# Altium integrated library Infineon_Power_Supply_Voltage_Regulator.IntLib: 346 symbols (part 14 of 16)
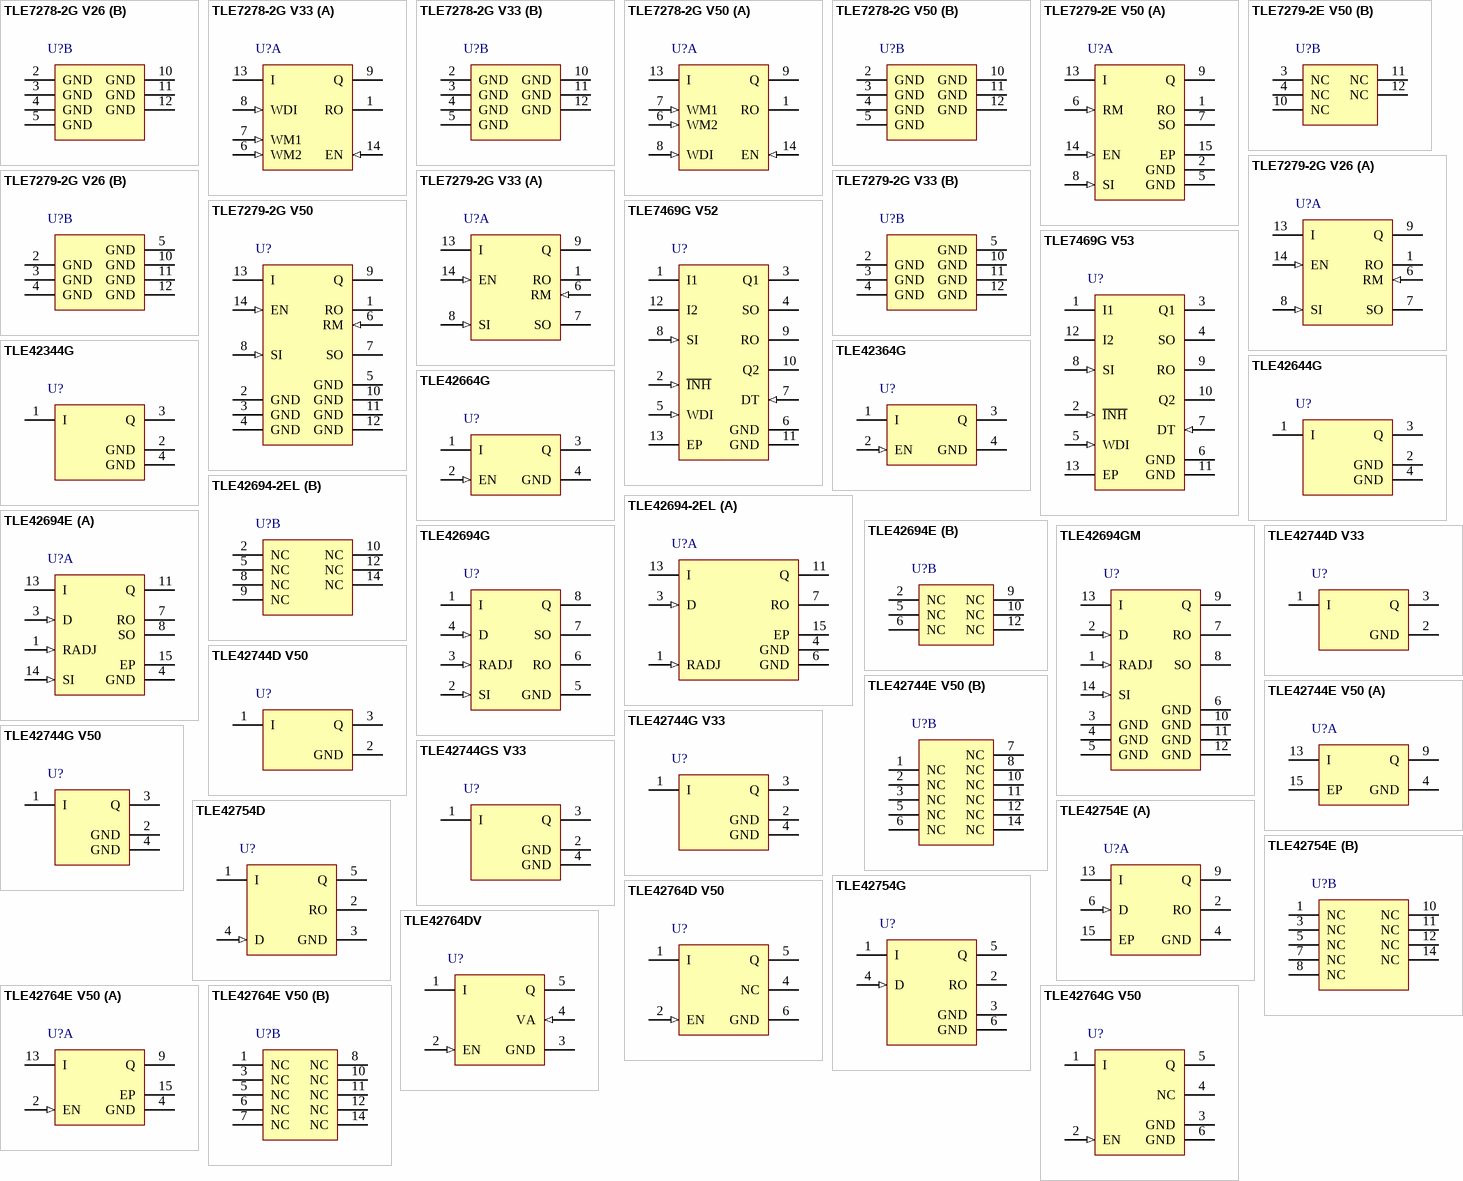
[diagram p22: symbols TLE7278-2G V26 to TLE42764G V50]

## TLE42694-2EL
designator U?
Low Drop Fixed Voltage Regulator, 5.5 to 45 V Supply, 5 V Output, -40 to 150 degC, PG-SSOP-14, Reel, Green; Manufacturer: Infineon; PartNumber: TLE42694-2EL; Accuracy: 2 %; Dropout Voltage: 200 mV; Green: TRUE; Max. Output Current: 150 mA; Output Voltage: 5V; Regulator Type: single output; Typical Quiescent Current: 210 uA; DatasheetVersion: Rev. 1.0; PackageVersion: Oct-08; PackageReference: PG-SSOP-14; PackageDescription: 14-Pin Plastic (Green) Shrink Small Outline Package, 4.9 x 3.9 mm Body, 0.65 mm Pitch; Supplier 1: Mouser; Supplier Part Number 1: N/A; Halogen-free: TRUE; Operating Range: 5.5 to 45 V; Packing: Reel; Mounting Technology: Surface Mount; ComponentLink1Description: Manufacturer URL; ComponentLink1URL: http://www.infineon.com/; ComponentLink2Description: Datasheet; ComponentLink2URL: http://www.infineon.com/dgdl/TLE42694-2-DS-10-Infineon.pdf?folderId=db3a30431ff988150120802bce1d257a&fileId=db3a30433acf32c9013ad5e978df5e29&location=en.Products.Automotive_ICs.Linear_Voltage_Regulators_for_Automotive-Applications.Linear_Voltage_Regulators_-_Selection_Table.DATASHEET.TLE42694-2-DS-10-Infineon.pdf; ComponentLink3Description: Package Specification; ComponentLink3URL: http://www.infineon.com/dgdl/ILD1151-Data-Sheet-11-Infineon.pdf?folderId=db3a30431f848401011fcbf2ab4c04c4&fileId=db3a304330046413013031216f2b20e1&location=en.Products.LED_Drivers___Lighting_ICs.LED_Driver_for_Outdoor_Lighting___Indoor_Lighting.LED_Driver__Product_portfolio_and_Information.DATASHEET.ILD1151-Data-Sheet-11-Infineon.pdf
footprint INF-PG-SSOP-14_N (SOP, 14-Leads, Body 4.9x3.9mm, Pitch 0.65mm, Thermal Pad 3.2x2.75mm, IPC Medium Density)
footprint INF-PG-SSOP-14_L (SOP, 14-Leads, Body 4.9x3.9mm, Pitch 0.65mm, Thermal Pad 3.2x2.85mm, IPC High Density)
footprint INF-PG-SSOP-14_M (SOP, 14-Leads, Body 4.9x3.9mm, Pitch 0.65mm, Thermal Pad 3.2x2.55mm, IPC Low Density)
part A pins: 1 RADJ (in) "Reset Threshold Adjust, connect an external voltage divider to adjust reset threshold; connect to GND for using internal threshold", 3 D (in) "Reset Delay Timing, connect a ceramic capacitor to GND for adjusting the reset delay time; leave open if the reset function is not needed", 4 GND (power) "Ground, all pins must be connected to GND", 6 GND (power) "Ground, all pins must be connected to GND", 7 RO (oc) "Reset Output, open collector output; internally linked to the output via a 20k ohm pull-up resistor; leave open if the reset function is not needed", 11 Q (power) "Output, block to GND with a capacitor close to the IC terminals, respecting the values given  for its capacitance CQ and ESR in the table “Functional Range" on Page 6", 13 I (power) "Input, for compensating line influences, a capacitor to GND close to the IC terminals is  recommended", 15 EP (power) "Exposed Pad, connect to heatsink area; connect to GND"
part B pins: 2 NC "Not connected. No Internal Connection. Can be connected to I or GND (to improve heat dissipation).", 5 NC "Not connected. No Internal Connection. Can be connected to I or GND (to improve heat dissipation).", 8 NC "Not connected. No Internal Connection. Can be connected to I or GND (to improve heat dissipation).", 9 NC "Not connected. No Internal Connection. Can be connected to I or GND (to improve heat dissipation).", 10 NC "Not connected. No Internal Connection. Can be connected to I or GND (to improve heat dissipation).", 12 NC "Not connected. No Internal Connection. Can be connected to I or GND (to improve heat dissipation).", 14 NC "Not connected. No Internal Connection. Can be connected to I or GND (to improve heat dissipation)."

## TLE42694E
designator U?
Low Drop Fixed Voltage Regulator, 5.5 to 45 V Supply, 5 V Output, -40 to 150 degC, PG-SSOP-14, Reel, Green; Manufacturer: Infineon; PartNumber: TLE42694E; Accuracy: 2 %; Dropout Voltage: 250 mV; Green: TRUE; Max. Output Current: 100 mA; Output Voltage: 5V; Regulator Type: single output; Typical Quiescent Current: 210 uA; DatasheetVersion: Rev. 1.2; PackageVersion: Oct-08; PackageReference: PG-SSOP-14; PackageDescription: 14-Pin Plastic (Green) Shrink Small Outline Package, 4.9 x 3.9 mm Body, 0.65 mm Pitch; Supplier 1: Mouser; Supplier Part Number 1: 726-TLE42694E; Supplier 2: Digi-Key; Supplier Part Number 2: TLE42694EINTR-ND; Supplier 3: Digi-Key; Supplier Part Number 3: TLE42694EINCT-ND; Supplier 4: Digi-Key; Supplier Part Number 4: TLE42694EINDKR-ND; Halogen-free: TRUE; Operating Range: 5.5 to 45 V; Packing: Reel; Mounting Technology: Surface Mount; ComponentLink1Description: Manufacturer URL; ComponentLink1URL: http://www.infineon.com/; ComponentLink2Description: Datasheet; ComponentLink2URL: http://www.infineon.com/dgdl/TLE42694_DS_120.pdf?folderId=db3a304314dca3890115039cf70d0bf0&fileId=db3a304320d39d59012176fa917778e1&location=en.Products.Automotive_ICs.Linear_Voltage_Regulators_for_Automotive-Applications.Linear_Voltage_Regulators_-_Selection_Table.DATASHEET.TLE42694_DS_120.pdf; ComponentLink3Description: Package Specification; ComponentLink3URL: http://www.infineon.com/dgdl/ILD1151-Data-Sheet-11-Infineon.pdf?folderId=db3a30431f848401011fcbf2ab4c04c4&fileId=db3a304330046413013031216f2b20e1&location=en.Products.LED_Drivers___Lighting_ICs.LED_Driver_for_Outdoor_Lighting___Indoor_Lighting.LED_Driver__Product_portfolio_and_Information.DATASHEET.ILD1151-Data-Sheet-11-Infineon.pdf
footprint INF-PG-SSOP-14_N (SOP, 14-Leads, Body 4.9x3.9mm, Pitch 0.65mm, Thermal Pad 3.2x2.75mm, IPC Medium Density)
footprint INF-PG-SSOP-14_L (SOP, 14-Leads, Body 4.9x3.9mm, Pitch 0.65mm, Thermal Pad 3.2x2.85mm, IPC High Density)
footprint INF-PG-SSOP-14_M (SOP, 14-Leads, Body 4.9x3.9mm, Pitch 0.65mm, Thermal Pad 3.2x2.55mm, IPC Low Density)
part A pins: 1 RADJ (in) "Reset Threshold Adjust connect an external voltage divider to adjust reset threshold; connect to GND for using internal threshold", 3 D (in) "Reset Delay Timing connect a ceramic capacitor to GND for adjusting the reset delay time; leave open if the reset function is not needed", 4 GND (power) "Ground all pins must be connected to GND", 7 RO (oc) "Reset Output open collector output; internally linked to the output via a 20k ohm pull-up resistor; leave open if the reset function is not needed", 8 SO (oc) "Sense Output open collector output; internally linked to the output via a 20k ohm pull-up resistor; leave open if the sense comparator is not needed", 11 Q (power) "Output block to GND with a capacitor close to the IC terminals, respecting the values given  for its capacitance C Q and ESR in the table "Functional Range" on Page 7", 13 I (power) "Input for compensating line influences, a capacitor to GND close to the IC terminals is  recommended", 14 SI (in) "Sense Input connect the voltage to be monitored; connect to Q if the sense comparator is not needed", 15 EP (power) "Exposed Pad connect to heatsink area; connect to GND"
part B pins: 2 NC "not connected", 5 NC "not connected", 6 NC "not connected", 9 NC "not connected", 10 NC "not connected", 12 NC "not connected"

## TLE42694G
designator U?
Low Drop Fixed Voltage Regulator, 5.5 to 45 V Supply, 5 V Output, -40 to 150 degC, PG-DSO-8-16, Reel, Green; Manufacturer: Infineon; PartNumber: TLE42694G; Accuracy: 2 %; Dropout Voltage: 250 mV; Green: TRUE; Max. Output Current: 100 mA; Output Voltage: 5V; Regulator Type: single output; Typical Quiescent Current: 210 uA; DatasheetVersion: Rev. 1.2; PackageVersion: Mar-07; PackageReference: PG-DSO-8-16; PackageDescription: 8-Pin Plastic (Green) Dual Small Outline Package, 4.9 x 3.9 mm Body, 1.27 mm Pitch; Supplier 1: Mouser; Supplier Part Number 1: 726-TLE42694G; Supplier 2: Digi-Key; Supplier Part Number 2: TLE42694GTR-ND; Supplier 3: Digi-Key; Supplier Part Number 3: TLE42694GCT-ND; Supplier 4: Digi-Key; Supplier Part Number 4: TLE42694GDKR-ND; Halogen-free: TRUE; Operating Range: 5.5 to 45 V; Packing: Reel; Mounting Technology: Surface Mount; ComponentLink1Description: Manufacturer URL; ComponentLink1URL: http://www.infineon.com/; ComponentLink2Description: Datasheet; ComponentLink2URL: http://www.infineon.com/dgdl/TLE42694_DS_120.pdf?folderId=db3a304314dca3890115039cf70d0bf0&fileId=db3a304320d39d59012176fa917778e1&location=en.Products.Automotive_ICs.Linear_Voltage_Regulators_for_Automotive-Applications.Linear_Voltage_Regulators_-_Selection_Table.DATASHEET.TLE42694_DS_120.pdf; ComponentLink3Description: Package Specification; ComponentLink3URL: http://www.infineon.com/dgdl/TLE7259-2GE_DS_rev12.pdf?folderId=db3a3043163797a6011666d32a0c0de1&fileId=db3a3043163797a6011666d4dbb80de2&location=en.Products.Automotive_ICs.Automotive_Transceivers.LIN_Transceivers.DATASHEET.TLE7259-2GE_DS_rev12.pdf
footprint INF-PG-DSO-8-16_N (SOP, 8-Leads, Body 4.9x3.9mm, Pitch 1.27mm, IPC Medium Density)
footprint INF-PG-DSO-8-16_L (SOP, 8-Leads, Body 4.9x3.9mm, Pitch 1.27mm, IPC High Density)
footprint INF-PG-DSO-8-16_M (SOP, 8-Leads, Body 4.9x3.9mm, Pitch 1.27mm, IPC Low Density)
pins: 1 I (power) "Input for compensating line influences, a capacitor to GND close to the IC terminals is  recommended", 2 SI (in) "Sense Input connect the voltage to be monitored; connect to Q if the sense comparator is not needed", 3 RADJ (in) "Reset Threshold Adjust connect an external voltage divider to adjust reset threshold; connect to GND for using internal threshold", 4 D (in) "Reset Delay Timing connect a ceramic capacitor to GND for adjusting the reset delay time; leave open if the reset function is not needed", 5 GND (power) "Ground", 6 RO (oc) "Reset Output open collector output; external pull-up resistor required, respecting values given in  Item 5.6.5; leave open if the reset function is not needed", 7 SO (oc) "Sense Output open collector output; external pull-up resistor required, respecting values given in  Item 5.8.6; leave open if the sense comparator is not needed", 8 Q (power) "Output block to GND with a capacitor close to the IC terminals, respecting the values given  for its capacitance C Q and ESR in "Functional Range" on Page 9"

## TLE42694GM
designator U?
Low Drop Fixed Voltage Regulator, 5.5 to 45 V Supply, 5 V Output, -40 to 150 degC, PG-DSO-14-37, Reel, Green; Manufacturer: Infineon; PartNumber: TLE42694GM; Accuracy: 2 %; Dropout Voltage: 250 mV; Green: TRUE; Max. Output Current: 100 mA; Output Voltage: 5V; Regulator Type: single output; Typical Quiescent Current: 210 uA; DatasheetVersion: Rev. 1.2; PackageVersion: Sep-07; PackageReference: PG-DSO-14-37; PackageDescription: 14-Pin Plastic (Green) Dual Small Outline Package, 8.65 x 3.9 mm Body, 1.27 mm Pitch; Supplier 1: Mouser; Supplier Part Number 1: 726-TLE42694GM; Supplier 2: Digi-Key; Supplier Part Number 2: TLE42694GMTR-ND; Supplier 3: Digi-Key; Supplier Part Number 3: TLE42694GMCT-ND; Supplier 4: Digi-Key; Supplier Part Number 4: TLE42694GMDKR-ND; Halogen-free: TRUE; Operating Range: 5.5 to 45 V; Packing: Reel; Mounting Technology: Surface Mount; ComponentLink1Description: Manufacturer URL; ComponentLink1URL: http://www.infineon.com/; ComponentLink2Description: Datasheet; ComponentLink2URL: http://www.infineon.com/dgdl/TLE42694_DS_120.pdf?folderId=db3a304314dca3890115039cf70d0bf0&fileId=db3a304320d39d59012176fa917778e1&location=en.Products.Automotive_ICs.Linear_Voltage_Regulators_for_Automotive-Applications.Linear_Voltage_Regulators_-_Selection_Table.DATASHEET.TLE42694_DS_120.pdf; ComponentLink3Description: Package Specification; ComponentLink3URL: http://www.infineon.com/dgdl/BTS723GWDS11_2007_09_25.pdf?folderId=db3a304314dca389011537739e37155f&fileId=db3a304331c8f8560131dbfec21b0da9&sId=db3a30443d67b5ca013d854df2f133e5
footprint INF-PG-DSO-14-37_N (SOP, 14-Leads, Body 8.65x3.9mm, Pitch 1.27mm, IPC Medium Density)
footprint INF-PG-DSO-14-37_L (SOP, 14-Leads, Body 8.65x3.9mm, Pitch 1.27mm, IPC High Density)
footprint INF-PG-DSO-14-37_M (SOP, 14-Leads, Body 8.65x3.9mm, Pitch 1.27mm, IPC Low Density)
pins: 1 RADJ (in) "Reset Threshold Adjust; connect an external voltage divider to adjust reset threshold; connect to GND for using internal threshold", 2 D (in) "Reset Delay Timing; connect a ceramic capacitor to GND for adjusting the reset delay time; leave open if the reset function is not needed", 3 GND (power) "Ground; all pins must be connected to GND", 4 GND (power) "Ground; all pins must be connected to GND", 5 GND (power) "Ground; all pins must be connected to GND", 6 GND (power) "Ground; all pins must be connected to GND", 7 RO (oc) "Reset Output; open collector output; internally linked to the output via a 20k ohm pull-up resistor; leave open if the reset function is not needed", 8 SO (oc) "Sense Output; open collector output; internally linked to the output via a 20k ohm pull-up resistor; leave open if the sense comparator is not needed", 9 Q (power) "Output; block to GND with a capacitor close to the IC terminals, respecting the values given for its capacitance CQ and ESR in the table “Functional Range?on Page 9", 10 GND (power) "Ground; all pins must be connected to GND", 11 GND (power) "Ground; all pins must be connected to GND", 12 GND (power) "Ground; all pins must be connected to GND", 13 I (power) "Input; for compensating line influences, a capacitor to GND close to the IC terminals is recommended", 14 SI (in) "Sense Input; connect the voltage to be monitored; connect to Q if the sense comparator is not needed"

## TLE42744D V33
designator U?
Low Drop Linear Voltage Regulator, 4.7 to 40 V Supply, 3.3 V Output, -40 to 150 degC, PG-TO252-3-1, Reel, Green; Manufacturer: Infineon; PartNumber: TLE42744D V33; Accuracy: 2 %; Dropout Voltage: 250 mV; Green: TRUE; Max. Output Current: 400 mA; Output Voltage: 3.3 V; Regulator Type: single output; Typical Quiescent Current: 100 uA; DatasheetVersion: Rev. 1.1; PackageVersion: Jan-10; PackageReference: PG-TO252-3-1; PackageDescription: 3-Pin Plastic (Green) Transistor Single Outline Package, 6.5 x 6.12 mm Body, 2.28 mm Pitch; Supplier 1: Mouser; Supplier Part Number 1: 726-TLE42744DV33; Supplier 2: Digi-Key; Supplier Part Number 2: TLE42744D V33-ND; Halogen-free: TRUE; Operating Range: 4.7 to 40 V; Packing: Reel; Mounting Technology: Surface Mount; ComponentLink1Description: Manufacturer URL; ComponentLink1URL: http://www.infineon.com/; ComponentLink2Description: Datasheet; ComponentLink2URL: http://www.infineon.com/dgdl/TLE42744_DS_11.pdf?folderId=db3a304318f3fe290118f5a433570040&fileId=db3a304327b897500128012ccafe37d2&location=en.Products.Automotive_ICs.Linear_Voltage_Regulators_for_Automotive-Applications.Linear_Voltage_Regulators_-_Selection_Table.DATASHEET.TLE42744_DS_11.pdf; ComponentLink3Description: Package Specification; ComponentLink3URL: http://www.infineon.com/dgdl/TLE42744_DS_11.pdf?folderId=db3a304318f3fe290118f5a433570040&fileId=db3a304327b897500128012ccafe37d2&sId=db3a30443d67b5ca013d83f7c0ea327b
footprint INF-PG-TO252-3-1_N (DPAK, 3-Leads, Body 6.525x6.12mm, Pitch 2.28mm, IPC Medium Density)
footprint INF-PG-TO252-3-1_L (DPAK, 3-Leads, Body 6.525x6.12mm, Pitch 2.28mm, IPC High Density)
footprint INF-PG-TO252-3-1_M (DPAK, 3-Leads, Body 6.525x6.12mm, Pitch 2.28mm, IPC Low Density)
pins: 1 I (power), 2 GND (power), 3 Q (power)

## TLE42744D V50
designator U?
Low Drop Linear Voltage Regulator, 5.5 to 40 V Supply, 5 V Output, -40 to 150 degC, PG-TO252-3-1, Reel, Green; Manufacturer: Infineon; PartNumber: TLE42744D V50; Accuracy: 2 %; Dropout Voltage: 250 mV; Green: TRUE; Max. Output Current: 400 mA; Output Voltage: 5V; Regulator Type: single output; Typical Quiescent Current: 100 uA; DatasheetVersion: Rev. 1.1; PackageVersion: Jan-10; PackageReference: PG-TO252-3-1; PackageDescription: 3-Pin Plastic (Green) Transistor Single Outline Package, 6.5 x 6.12 mm Body, 2.28 mm Pitch; Supplier 1: Mouser; Supplier Part Number 1: 726-TLE42744DV50; Supplier 2: Digi-Key; Supplier Part Number 2: TLE42744D V50TR-ND; Supplier 3: Digi-Key; Supplier Part Number 3: TLE42744D V50CT-ND; Supplier 4: Digi-Key; Supplier Part Number 4: TLE42744D V50DKR-ND; Halogen-free: TRUE; Operating Range: 5.5 to 40 V; Packing: Reel; Mounting Technology: Surface Mount; ComponentLink1Description: Manufacturer URL; ComponentLink1URL: http://www.infineon.com/; ComponentLink2Description: Datasheet; ComponentLink2URL: http://www.infineon.com/dgdl/TLE42744_DS_11.pdf?folderId=db3a304318f3fe290118f5a433570040&fileId=db3a304327b897500128012ccafe37d2&location=en.Products.Automotive_ICs.Linear_Voltage_Regulators_for_Automotive-Applications.Linear_Voltage_Regulators_-_Selection_Table.DATASHEET.TLE42744_DS_11.pdf; ComponentLink3Description: Package Specification; ComponentLink3URL: http://www.infineon.com/dgdl/TLE42744_DS_11.pdf?folderId=db3a304318f3fe290118f5a433570040&fileId=db3a304327b897500128012ccafe37d2&sId=db3a30443d67b5ca013d83f7c0ea327b
footprint INF-PG-TO252-3-1_N (DPAK, 3-Leads, Body 6.525x6.12mm, Pitch 2.28mm, IPC Medium Density)
footprint INF-PG-TO252-3-1_L (DPAK, 3-Leads, Body 6.525x6.12mm, Pitch 2.28mm, IPC High Density)
footprint INF-PG-TO252-3-1_M (DPAK, 3-Leads, Body 6.525x6.12mm, Pitch 2.28mm, IPC Low Density)
pins: 1 I (power), 2 GND (power), 3 Q (power)

## TLE42744E V50
designator U?
Low Drop Linear Voltage Regulator, 5.5 to 40 V Supply, 5 V Output, -40 to 150 degC, PG-SSOP-14, Reel, Green; Manufacturer: Infineon; PartNumber: TLE42744E V50; Accuracy: 2 %; Dropout Voltage: 250 mV; Green: TRUE; Max. Output Current: 400 mA; Output Voltage: 5V; Regulator Type: single output; Typical Quiescent Current: 100 uA; DatasheetVersion: Rev. 1.1; PackageVersion: Oct-08; PackageReference: PG-SSOP-14; PackageDescription: 14-Pin Plastic (Green) Shrink Small Outline Package, 4.9 x 3.9 mm Body, 0.65 mm Pitch; Supplier 1: Mouser; Supplier Part Number 1: 726-TLE42744EV50; Supplier 2: Digi-Key; Supplier Part Number 2: TLE42744E V50-ND; Halogen-free: TRUE; Operating Range: 5.5 to 40 V; Packing: Reel; Mounting Technology: Surface Mount; ComponentLink1Description: Manufacturer URL; ComponentLink1URL: http://www.infineon.com/; ComponentLink2Description: Datasheet; ComponentLink2URL: http://www.infineon.com/dgdl/TLE42744_DS_11.pdf?folderId=db3a304318f3fe290118f5a433570040&fileId=db3a304327b897500128012ccafe37d2&location=en.Products.Automotive_ICs.Linear_Voltage_Regulators_for_Automotive-Applications.Linear_Voltage_Regulators_-_Selection_Table.DATASHEET.TLE42744_DS_11.pdf; ComponentLink3Description: Package Specification; ComponentLink3URL: http://www.infineon.com/dgdl/ILD1151-Data-Sheet-11-Infineon.pdf?folderId=db3a30431f848401011fcbf2ab4c04c4&fileId=db3a304330046413013031216f2b20e1&location=en.Products.LED_Drivers___Lighting_ICs.LED_Driver_for_Outdoor_Lighting___Indoor_Lighting.LED_Driver__Product_portfolio_and_Information.DATASHEET.ILD1151-Data-Sheet-11-Infineon.pdf
footprint INF-PG-SSOP-14_N (SOP, 14-Leads, Body 4.9x3.9mm, Pitch 0.65mm, Thermal Pad 3.2x2.75mm, IPC Medium Density)
footprint INF-PG-SSOP-14_L (SOP, 14-Leads, Body 4.9x3.9mm, Pitch 0.65mm, Thermal Pad 3.2x2.85mm, IPC High Density)
footprint INF-PG-SSOP-14_M (SOP, 14-Leads, Body 4.9x3.9mm, Pitch 0.65mm, Thermal Pad 3.2x2.55mm, IPC Low Density)
part A pins: 4 GND (power) "Ground", 9 Q (power) "Output  block to GND with a capacitor close to the IC terminals, respecting the values given for its capacitance CQ and ESR in the table “Functional Range” on Page 8", 13 I (power) "Input for compensating line influences, a capacitor to GND close to the IC terminals is recommended", 15 EP (power) "Exposed Pad connect to heatsink area; connect with GND on PCB"
part B pins: 1 NC "not connected leave open or connect to GND", 2 NC "not connected leave open or connect to GND", 3 NC "not connected leave open or connect to GND", 5 NC "not connected leave open or connect to GND", 6 NC "not connected leave open or connect to GND", 7 NC "not connected leave open or connect to GND", 8 NC "not connected leave open or connect to GND", 10 NC "not connected leave open or connect to GND", 11 NC "not connected leave open or connect to GND", 12 NC "not connected leave open or connect to GND", 14 NC "not connected leave open or connect to GND"

## TLE42744G V33
designator U?
Low Drop Linear Voltage Regulator, 4.7 to 40 V Supply, 3.3 V Output, -40 to 150 degC, PG-TO263-3-1, Reel, Green; Manufacturer: Infineon; PartNumber: TLE42744G V33; Accuracy: 2 %; Dropout Voltage: 250 mV; Green: TRUE; Max. Output Current: 400 mA; Output Voltage: 3.3 V; Regulator Type: single output; Typical Quiescent Current: 100 uA; DatasheetVersion: Rev. 1.1; PackageVersion: Jan-10; PackageReference: PG-TO263-3-1; PackageDescription: 3-Pin Plastic (Green) Transistor Single Outline Package, 10 x 9.25 mm Body, 2.54 mm Pitch; Supplier 1: Mouser; Supplier Part Number 1: 726-TLE42744GV33; Supplier 2: Digi-Key; Supplier Part Number 2: TLE42744G V33TR-ND; Supplier 3: Digi-Key; Supplier Part Number 3: TLE42744G V33CT-ND; Supplier 4: Digi-Key; Supplier Part Number 4: TLE42744G V33DKR-ND; Halogen-free: TRUE; Operating Range: 4.7 to 40 V; Packing: Reel; Mounting Technology: Surface Mount; ComponentLink1Description: Manufacturer URL; ComponentLink1URL: http://www.infineon.com/; ComponentLink2Description: Datasheet; ComponentLink2URL: http://www.infineon.com/dgdl/TLE42744_DS_11.pdf?folderId=db3a304318f3fe290118f5a433570040&fileId=db3a304327b897500128012ccafe37d2&location=en.Products.Automotive_ICs.Linear_Voltage_Regulators_for_Automotive-Applications.Linear_Voltage_Regulators_-_Selection_Table.DATASHEET.TLE42744_DS_11.pdf; ComponentLink3Description: Package Specification; ComponentLink3URL: http://www.infineon.com/dgdl/TLE42744_DS_11.pdf?folderId=db3a304318f3fe290118f5a433570040&fileId=db3a304327b897500128012ccafe37d2&sId=db3a30443d67b5ca013d83f7c0ea327b
footprint INF-PG-TO263-3-1_N (DPAK, 3-Leads, Body 10x9.25mm, Pitch 2.54mm, IPC Medium Density)
footprint INF-PG-TO263-3-1_L (DPAK, 3-Leads, Body 10x9.25mm, Pitch 2.54mm, IPC High Density)
footprint INF-PG-TO263-3-1_M (DPAK, 3-Leads, Body 10x9.25mm, Pitch 2.54mm, IPC Low Density)
pins: 1 I (power) "Input, block to ground directly at the IC with a ceramic capacitor", 2 GND (power) "Ground", 3 Q (power) "Output, block to ground with capacitor CQ>=10uF, ESR<=2.5 ohm", 4 GND (power) "Ground"

## TLE42744G V50
designator U?
Low Drop Linear Voltage Regulator, 5.5 to 40 V Supply, 5 V Output, -40 to 150 degC, PG-TO263-3-1, Reel, Green; Manufacturer: Infineon; PartNumber: TLE42744G V50; Accuracy: 2 %; Dropout Voltage: 250 mV; Green: TRUE; Max. Output Current: 400 mA; Output Voltage: 5V; Regulator Type: single output; Typical Quiescent Current: 100 uA; DatasheetVersion: Rev. 1.1; PackageVersion: Jan-10; PackageReference: PG-TO263-3-1; PackageDescription: 3-Pin Plastic (Green) Transistor Single Outline Package, 10 x 9.25 mm Body, 2.54 mm Pitch; Supplier 1: Mouser; Supplier Part Number 1: 726-TLE42744GV50; Supplier 2: Digi-Key; Supplier Part Number 2: TLE42744G V50TR-ND; Supplier 3: Digi-Key; Supplier Part Number 3: TLE42744G V50CT-ND; Supplier 4: Digi-Key; Supplier Part Number 4: TLE42744G V50DKR-ND; Halogen-free: TRUE; Operating Range: 5.5 to 40 V; Packing: Reel; Mounting Technology: Surface Mount; ComponentLink1Description: Manufacturer URL; ComponentLink1URL: http://www.infineon.com/; ComponentLink2Description: Datasheet; ComponentLink2URL: http://www.infineon.com/dgdl/TLE42744_DS_11.pdf?folderId=db3a304318f3fe290118f5a433570040&fileId=db3a304327b897500128012ccafe37d2&location=en.Products.Automotive_ICs.Linear_Voltage_Regulators_for_Automotive-Applications.Linear_Voltage_Regulators_-_Selection_Table.DATASHEET.TLE42744_DS_11.pdf; ComponentLink3Description: Package Specification; ComponentLink3URL: http://www.infineon.com/dgdl/TLE42744_DS_11.pdf?folderId=db3a304318f3fe290118f5a433570040&fileId=db3a304327b897500128012ccafe37d2&sId=db3a30443d67b5ca013d83f7c0ea327b
footprint INF-PG-TO263-3-1_N (DPAK, 3-Leads, Body 10x9.25mm, Pitch 2.54mm, IPC Medium Density)
footprint INF-PG-TO263-3-1_L (DPAK, 3-Leads, Body 10x9.25mm, Pitch 2.54mm, IPC High Density)
footprint INF-PG-TO263-3-1_M (DPAK, 3-Leads, Body 10x9.25mm, Pitch 2.54mm, IPC Low Density)
pins: 1 I (power) "Input; block to ground directly at the IC with a ceramic capacitor", 2 GND (power) "Ground", 3 Q (power) "Output; block to ground with a capacitor close to the IC terminals, respecting the values given for its capacitance and ESR in “Functional Range” on Page 7", 4 GND (power) "Ground"

## TLE42744GS V33
designator U?
Low Drop Linear Voltage Regulator, 4.7 to 40 V Supply, 3.3 V Output, -40 to 150 degC, PG-SOT223 (SC-73), Reel, Green; Manufacturer: Infineon; PartNumber: TLE42744GS V33; Accuracy: 2 %; Dropout Voltage: 250 mV; Green: TRUE; Max. Output Current: 400 mA; Output Voltage: 3.3 V; Regulator Type: single output; Typical Quiescent Current: 100 uA; DatasheetVersion: Rev. 1.1; PackageVersion: Apr-08; PackageReference: PG-SOT223 (SC-73); PackageDescription: 4-Pin Small Outline Transistor Package, 6.5 x 3.5 mm Body, 2.3 mm Pitch; Supplier 1: Mouser; Supplier Part Number 1: 726-TLE42744GSV33; Operating Range: 4.7 to 40 V; Packing: Reel; Mounting Technology: Surface Mount; ComponentLink1Description: Manufacturer URL; ComponentLink1URL: http://www.infineon.com/; ComponentLink2Description: Datasheet; ComponentLink2URL: http://www.infineon.com/dgdl/TLE42744_DS_11.pdf?folderId=db3a304318f3fe290118f5a433570040&fileId=db3a304327b897500128012ccafe37d2&location=en.Products.Automotive_ICs.Linear_Voltage_Regulators_for_Automotive-Applications.Linear_Voltage_Regulators_-_Selection_Table.DATASHEET.TLE42744_DS_11.pdf; ComponentLink3Description: Package Specification; ComponentLink3URL: http://www.infineon.com/dgdl/SOT223-Package_Overview.pdf?folderId=db3a30431936bc4b0119530470b03c3d&fileId=db3a30431936bc4b0119531d40b93c5c
footprint INF-PG-SOT223_SC-73_N (SOT223, 4-Leads, Body 6.5x3.5mm, Pitch 2.3mm, IPC Medium Density)
footprint INF-PG-SOT223_SC-73_L (SOT223, 4-Leads, Body 6.5x3.5mm, Pitch 2.3mm, IPC High Density)
footprint INF-PG-SOT223_SC-73_M (SOT223, 4-Leads, Body 6.5x3.5mm, Pitch 2.3mm, IPC Low Density)
pins: 1 I (power) "Input, block to ground directly at the IC with a ceramic capacitor", 2 GND (power) "Ground", 3 Q (power) "Output, block to ground with capacitor CQ>=10uF, ESR<=2.5 ohm", 4 GND (power) "Ground"

## TLE42754D
designator U?
Low Drop Linear Fixed Voltage Regulator, 5.5 to 42 V Supply, 5 V Output, -40 to 150 degC, PG-TO252-5-11, Reel, Green; Manufacturer: Infineon; PartNumber: TLE42754D; Accuracy: 2 %; Dropout Voltage: 250 mV; Green: TRUE; Max. Output Current: 450 mA; Output Voltage: 5V; Regulator Type: single output; Typical Quiescent Current: 150 uA; DatasheetVersion: Rev. 1.11; PackageVersion: Nov-10; PackageReference: PG-TO252-5-11; PackageDescription: 5-Pin Plastic (Green) Transistor Single Outline Package, 6.5 x 6.12 mm Body, 1.14 mm Pitch; Supplier 1: Mouser; Supplier Part Number 1: 726-TLE42754D; Supplier 2: Digi-Key; Supplier Part Number 2: TLE42754DINTR-ND; Supplier 3: Digi-Key; Supplier Part Number 3: TLE42754DINCT-ND; Supplier 4: Digi-Key; Supplier Part Number 4: TLE42754DINDKR-ND; Halogen-free: TRUE; Operating Range: 5.5 to 42 V; Packing: Reel; Mounting Technology: Surface Mount; ComponentLink1Description: Manufacturer URL; ComponentLink1URL: http://www.infineon.com/; ComponentLink2Description: Datasheet; ComponentLink2URL: http://www.infineon.com/dgdl/TLE42754_DS_111.pdf?folderId=db3a304314dca3890115039cf70d0bf0&fileId=db3a30431b3e89eb011b4fbd446778bc&location=en.Products.Automotive_ICs.Linear_Voltage_Regulators_for_Automotive-Applications.Linear_Voltage_Regulators_-_Selection_Table.DATASHEET.TLE42754_DS_111.pdf; ComponentLink3Description: Package Specification; ComponentLink3URL: http://www.infineon.com/dgdl/TLE7276-Data+Sheet-+v1_11.pdf?folderId=db3a304412b407950112b408e8c90004&fileId=db3a304412b407950112b436c53f66c8&sId=db3a30433db6f09f013dc0e43c0428c1
footprint INF-PG-TO252-5-11_N (DPAK, 5-Leads, Body 6.5x6.12mm, Pitch 1.14mm, IPC Medium Density)
footprint INF-PG-TO252-5-11_L (DPAK, 5-Leads, Body 6.5x6.12mm, Pitch 1.14mm, IPC High Density)
footprint INF-PG-TO252-5-11_M (DPAK, 5-Leads, Body 6.5x6.12mm, Pitch 1.14mm, IPC Low Density)
pins: 1 I (power) "Input, for compensating line influences, a capacitor to GND close to the IC terminals is  recommended", 2 RO (oc) "Reset Output, open collector output; external pull-up resistor to a positive potential required; leave open if the reset function is not needed", 3 GND (power) "Ground, connect to heatsink area", 4 D (in) "Reset Delay Timing, connect a ceramic capacitor to GND for adjusting the reset delay time; leave open if the reset function is not needed", 5 Q (power) "Output, block to GND with a capacitor close to the IC terminals, respecting the values given  for its capacitance CQ and ESR in the table “Functional Range?on Page 8"

## TLE42754E
designator U?
Low Drop Linear Fixed Voltage Regulator, 5.5 to 42 V Supply, 5 V Output, -40 to 150 degC, PG-SSOP-14, Reel, Green; Manufacturer: Infineon; PartNumber: TLE42754E; Accuracy: 2 %; Dropout Voltage: 250 mV; Green: TRUE; Max. Output Current: 450 mA; Output Voltage: 5V; Regulator Type: single output; Typical Quiescent Current: 150 uA; DatasheetVersion: Rev. 1.11; PackageVersion: Oct-08; PackageReference: PG-SSOP-14; PackageDescription: 14-Pin Plastic (Green) Shrink Small Outline Package, 4.9 x 3.9 mm Body, 0.65 mm Pitch; Supplier 1: Mouser; Supplier Part Number 1: 726-TLE42754E; Supplier 2: Digi-Key; Supplier Part Number 2: TLE42754E-ND; Halogen-free: TRUE; Operating Range: 5.5 to 42 V; Packing: Reel; Mounting Technology: Surface Mount; ComponentLink1Description: Manufacturer URL; ComponentLink1URL: http://www.infineon.com/; ComponentLink2Description: Datasheet; ComponentLink2URL: http://www.infineon.com/dgdl/TLE42754_DS_111.pdf?folderId=db3a304314dca3890115039cf70d0bf0&fileId=db3a30431b3e89eb011b4fbd446778bc&location=en.Products.Automotive_ICs.Linear_Voltage_Regulators_for_Automotive-Applications.Linear_Voltage_Regulators_-_Selection_Table.DATASHEET.TLE42754_DS_111.pdf; ComponentLink3Description: Package Specification; ComponentLink3URL: http://www.infineon.com/dgdl/ILD1151-Data-Sheet-11-Infineon.pdf?folderId=db3a30431f848401011fcbf2ab4c04c4&fileId=db3a304330046413013031216f2b20e1&location=en.Products.LED_Drivers___Lighting_ICs.LED_Driver_for_Outdoor_Lighting___Indoor_Lighting.LED_Driver__Product_portfolio_and_Information.DATASHEET.ILD1151-Data-Sheet-11-Infineon.pdf
footprint INF-PG-SSOP-14_N (SOP, 14-Leads, Body 4.9x3.9mm, Pitch 0.65mm, Thermal Pad 3.2x2.75mm, IPC Medium Density)
footprint INF-PG-SSOP-14_L (SOP, 14-Leads, Body 4.9x3.9mm, Pitch 0.65mm, Thermal Pad 3.2x2.85mm, IPC High Density)
footprint INF-PG-SSOP-14_M (SOP, 14-Leads, Body 4.9x3.9mm, Pitch 0.65mm, Thermal Pad 3.2x2.55mm, IPC Low Density)
part A pins: 2 RO (oc) "Reset Output open collector output; external pull-up resistor to a positive potential required; leave open if the reset function is not needed", 4 GND (power) "Ground", 6 D (in) "Reset Delay Timing connect a ceramic capacitor to GND for adjusting the reset delay time; leave open if the reset function is not needed", 9 Q (power) "Output  block to GND with a capacitor close to the IC terminals, respecting the values given for its capacitance CQ and ESR in the table "Functional Range" on Page 8", 13 I (power) "Input for compensating line influences, a capacitor to GND close to the IC terminals is recommended", 15 EP (power) "Exposed Pad connect to heatsink area; connect with GND on PCB"
part B pins: 1 NC "not connected leave open or connect to GND", 3 NC "not connected leave open or connect to GND", 5 NC "not connected leave open or connect to GND", 7 NC "not connected leave open or connect to GND", 8 NC "not connected leave open or connect to GND", 10 NC "not connected leave open or connect to GND", 11 NC "not connected leave open or connect to GND", 12 NC "not connected leave open or connect to GND", 14 NC "not connected leave open or connect to GND"

## TLE42754G
designator U?
Low Drop Linear Fixed Voltage Regulator, 5.5 to 42 V Supply, 5 V Output, -40 to 150 degC, PG-TO263-5-1, Reel, Green; Manufacturer: Infineon; PartNumber: TLE42754G; Accuracy: 2 %; Dropout Voltage: 250 mV; Green: TRUE; Max. Output Current: 450 mA; Output Voltage: 5V; Regulator Type: single output; Typical Quiescent Current: 150 uA; DatasheetVersion: Rev. 1.11; PackageVersion: Sep-08; PackageReference: PG-TO263-5-1; PackageDescription: 5-Pin Plastic (Green) Transistor Single Outline Package, 10 x 9.25 mm Body, 1.7 mm Pitch; Supplier 1: Mouser; Supplier Part Number 1: 726-TLE42754G; Supplier 2: Digi-Key; Supplier Part Number 2: TLE42754GTR-ND; Supplier 3: Digi-Key; Supplier Part Number 3: TLE42754GCT-ND; Supplier 4: Digi-Key; Supplier Part Number 4: TLE42754GDKR-ND; Halogen-free: TRUE; Operating Range: 5.5 to 42 V; Packing: Reel; Mounting Technology: Surface Mount; ComponentLink1Description: Manufacturer URL; ComponentLink1URL: http://www.infineon.com/; ComponentLink2Description: Datasheet; ComponentLink2URL: http://www.infineon.com/dgdl/TLE42754_DS_111.pdf?folderId=db3a304314dca3890115039cf70d0bf0&fileId=db3a30431b3e89eb011b4fbd446778bc&location=en.Products.Automotive_ICs.Linear_Voltage_Regulators_for_Automotive-Applications.Linear_Voltage_Regulators_-_Selection_Table.DATASHEET.TLE42754_DS_111.pdf; ComponentLink3Description: Package Specification; ComponentLink3URL: http://www.infineon.com/dgdl/TLE4675_DS10.pdf?folderId=db3a30431ddc9372011e26863f92474e&fileId=db3a30431ff9881501201fa645654e52&sId=db3a30433d68e984013d8b6677a5267d
footprint INF-PG-TO263-5-1_N (DPAK, 5-Leads, Body 10x9.25mm, Pitch 1.7mm, IPC Medium Density)
footprint INF-PG-TO263-5-1_L (DPAK, 5-Leads, Body 10x9.25mm, Pitch 1.7mm, IPC High Density)
footprint INF-PG-TO263-5-1_M (DPAK, 5-Leads, Body 10x9.25mm, Pitch 1.7mm, IPC Low Density)
pins: 1 I (power) "Input", 2 RO (oc) "Reset Output", 3 GND (power) "Ground", 4 D (in) "Reset Delay", 5 Q (power) "Output", 6 GND (power) "Ground"

## TLE42764D V50
designator U?
Low Dropout Linear Voltage Regulator, 5 Vout, -40 to 150 degC, PG-TO252-5, Reel, Green; Manufacturer: Infineon; PartNumber: TLE42764D V50; Accuracy: 2 %; Dropout Voltage: 250mV; Green: TRUE; Max. Output Current: 1100mA; Operating Range: 2.5 to 20 V; Output Voltage: 5 V; Reset: FALSE; Typical Quiescent Current: 100uA; DatasheetVersion: Rev. 1.3; PackageVersion: V0.1, 02/2008; PackageReference: PG-TO252-5-13; PackageDescription: 5-Pin Plastic (Green) Transistor Single Outline Package, 6.5 x 6.12 mm Body, 1.14 mm Pitch; Supplier 1: Digi-Key; Supplier Part Number 1: TLE42764D V50TR-ND; Supplier 2: Digi-Key; Supplier Part Number 2: TLE42764D V50CT-ND; Supplier 3: Digi-Key; Supplier Part Number 3: TLE42764D V50DKR-ND; Supplier 4: Mouser; Supplier Part Number 4: 726-TLE42764DV50; Halogen-free: TRUE; Packing: Reel; Regulator Type: Linear; Status Output: FALSE; Mounting Technology: Surface Mount; ComponentLink1Description: Manufacturer URL; ComponentLink1URL: http://www.infineon.com/; ComponentLink2Description: Datasheet; ComponentLink2URL: http://www.infineon.com/dgdl/TLE42764-Data-Sheet-13-Infineon.pdf?folderId=db3a30431ff988150120802bce1d257a&fileId=db3a304335113a63013513f81c0b309c; ComponentLink3Description: Package Specification; ComponentLink3URL: http://www.infineon.com/dgdl/BTS3160_DS_11.pdf?folderId=db3a3043163797a6011667aa084c0e01&fileId=db3a3043271faefd01274cf870e05d2e&location=en.Products.Automotive_ICs.Smart_High-_and_Low-Side_Switches.HITFET___TEMPFET__-_Smart_Low-Side_Switches.DATASHEET.BTS3160_DS_11.pdf
footprint INF-PG-TO252-5-13_N (DPAK, 5-Leads, Body 6.5x6.12mm, Pitch 1.14mm, IPC Medium Density)
footprint INF-PG-TO252-5-13_L (DPAK, 5-Leads, Body 6.5x6.12mm, Pitch 1.14mm, IPC High Density)
footprint INF-PG-TO252-5-13_M (DPAK, 5-Leads, Body 6.5x6.12mm, Pitch 1.14mm, IPC Low Density)
pins: 1 I (power) "Input block to ground directly at the IC with a ceramic capacitor", 2 EN (in) "Enable Input high level input signal enables the IC; low level input signal disables the IC; integrated pull-down resistor", 4 NC "not connected", 5 Q (power) "Output block to ground with a capacitor close to the IC terminals, respecting the values given for its capacitance and ESR in “Functional Range” on Page 7", 6 GND (power) "Heat Slug internally connected to GND; connect to GND and heatsink area"

## TLE42764DV
designator U?
Low Drop Linear Voltage Regulator, 4.5 to 40 V Supply, adj. Output, -40 to 150 degC, PG-TO252-5-11, Reel, Green; Manufacturer: Infineon; PartNumber: TLE42764DV; Accuracy: 2 %; Dropout Voltage: 250 mV; Green: TRUE; Max. Output Current: 400 mA; Output Voltage: adj; Regulator Type: single output; Typical Quiescent Current: 100 uA; DatasheetVersion: Rev. 1.2; PackageVersion: Nov-10; PackageReference: PG-TO252-5-11; PackageDescription: 5-Pin Plastic (Green) Transistor Single Outline Package, 6.5 x 6.12 mm Body, 1.14 mm Pitch; Supplier 1: Mouser; Supplier Part Number 1: 726-TLE42764DV; Supplier 2: Digi-Key; Supplier Part Number 2: TLE42764DVINTR-ND; Supplier 3: Digi-Key; Supplier Part Number 3: TLE42764DVINCT-ND; Supplier 4: Digi-Key; Supplier Part Number 4: TLE42764DVINDKR-ND; Halogen-free: TRUE; Operating Range: 4.5 to 40 V; Packing: Reel; Mounting Technology: Surface Mount; ComponentLink1Description: Manufacturer URL; ComponentLink1URL: http://www.infineon.com/; ComponentLink2Description: Datasheet; ComponentLink2URL: http://www.infineon.com/dgdl/TLE42764-Data-Sheet-V12-Infineon.pdf?folderId=db3a30431ff988150120802bce1d257a&fileId=db3a304335113a63013513f81c0b309c&location=en.Products.Automotive_ICs.Linear_Voltage_Regulators_for_Automotive-Applications.Linear_Voltage_Regulators_-_Selection_Table.DATASHEET.TLE42764-Data-Sheet-V12-Infineon.pdf; ComponentLink3Description: Package Specification; ComponentLink3URL: http://www.infineon.com/dgdl/TLE7276-Data+Sheet-+v1_11.pdf?folderId=db3a304412b407950112b408e8c90004&fileId=db3a304412b407950112b436c53f66c8&sId=db3a30433db6f09f013dc0e43c0428c1
footprint INF-PG-TO252-5-11_N (DPAK, 5-Leads, Body 6.5x6.12mm, Pitch 1.14mm, IPC Medium Density)
footprint INF-PG-TO252-5-11_L (DPAK, 5-Leads, Body 6.5x6.12mm, Pitch 1.14mm, IPC High Density)
footprint INF-PG-TO252-5-11_M (DPAK, 5-Leads, Body 6.5x6.12mm, Pitch 1.14mm, IPC Low Density)
pins: 1 I (power) "Input block to ground directly at the IC with a ceramic capacitor", 2 EN (in) "Enable Input high level input signal enables the IC;low level input signal disables the IC;integrated pull-down resistor", 3 GND (power) "Ground", 4 VA (in) "Voltage Adjust Input for TLE42764GV, TLE42764DV connect external voltage divider to configure the output voltage", 5 Q (power) "Output block to ground with a capacitor close to the IC terminals, respecting the values given for its capacitance and ESR in “Functional Range?on Page 7"

## TLE42764E V50
designator U?
Low Drop Linear Voltage Regulator, 5.5 to 40 V Supply, 5 V Output, -40 to 150 degC, PG-SSOP-14, Reel, Green; Manufacturer: Infineon; PartNumber: TLE42764E V50; Accuracy: 2 %; Dropout Voltage: 250 mV; Green: TRUE; Max. Output Current: 400 mA; Output Voltage: 5V; Regulator Type: single output; Typical Quiescent Current: 100 uA; DatasheetVersion: Rev. 1.2; PackageVersion: Oct-08; PackageReference: PG-SSOP-14; PackageDescription: 14-Pin Plastic (Green) Shrink Small Outline Package, 4.9 x 3.9 mm Body, 0.65 mm Pitch; Supplier 1: Mouser; Supplier Part Number 1: 726-TLE42764EV50; Halogen-free: TRUE; Operating Range: 5.5 to 40 V; Packing: Reel; Mounting Technology: Surface Mount; ComponentLink1Description: Manufacturer URL; ComponentLink1URL: http://www.infineon.com/; ComponentLink2Description: Datasheet; ComponentLink2URL: http://www.infineon.com/dgdl/TLE42764-Data-Sheet-V12-Infineon.pdf?folderId=db3a30431ff988150120802bce1d257a&fileId=db3a304335113a63013513f81c0b309c&location=en.Products.Automotive_ICs.Linear_Voltage_Regulators_for_Automotive-Applications.Linear_Voltage_Regulators_-_Selection_Table.DATASHEET.TLE42764-Data-Sheet-V12-Infineon.pdf; ComponentLink3Description: Package Specification; ComponentLink3URL: http://www.infineon.com/dgdl/ILD1151-Data-Sheet-11-Infineon.pdf?folderId=db3a30431f848401011fcbf2ab4c04c4&fileId=db3a304330046413013031216f2b20e1&location=en.Products.LED_Drivers___Lighting_ICs.LED_Driver_for_Outdoor_Lighting___Indoor_Lighting.LED_Driver__Product_portfolio_and_Information.DATASHEET.ILD1151-Data-Sheet-11-Infineon.pdf
footprint INF-PG-SSOP-14_N (SOP, 14-Leads, Body 4.9x3.9mm, Pitch 0.65mm, Thermal Pad 3.2x2.75mm, IPC Medium Density)
footprint INF-PG-SSOP-14_L (SOP, 14-Leads, Body 4.9x3.9mm, Pitch 0.65mm, Thermal Pad 3.2x2.85mm, IPC High Density)
footprint INF-PG-SSOP-14_M (SOP, 14-Leads, Body 4.9x3.9mm, Pitch 0.65mm, Thermal Pad 3.2x2.55mm, IPC Low Density)
part A pins: 2 EN (in) "Enable Input high level input signal enables the IC; low level input signal disables the IC; integrated pull-down resistor", 4 GND (power) "Ground", 9 Q (power) "Output block to ground with a capacitor close to the IC terminals, respecting the values given  for its capacitance and ESR in “Functional Range” on Page 7", 13 I (power) "Input block to ground directly at the IC with a ceramic capacitor", 15 EP (power) "Exposed Pad connect to GND and heatsink area"
part B pins: 1 NC "Non connected can be open or connected to GND", 3 NC "Non connected can be open or connected to GND", 5 NC "Non connected can be open or connected to GND", 6 NC "Non connected can be open or connected to GND", 7 NC "Non connected can be open or connected to GND", 8 NC "Non connected can be open or connected to GND", 10 NC "Non connected can be open or connected to GND", 11 NC "Non connected can be open or connected to GND", 12 NC "Non connected can be open or connected to GND", 14 NC "Non connected can be open or connected to GND"

## TLE42764G V50
designator U?
Low Drop Linear Voltage Regulator, 5.5 to 40 V Supply, 5 V Output, -40 to 150 degC, PG-TO263-5-1, Reel, Green; Manufacturer: Infineon; PartNumber: TLE42764G V50; Accuracy: 2 %; Dropout Voltage: 250 mV; Green: TRUE; Max. Output Current: 400 mA; Output Voltage: 5V; Regulator Type: single output; Typical Quiescent Current: 100 uA; DatasheetVersion: Rev. 1.2; PackageVersion: Sep-08; PackageReference: PG-TO263-5-1; PackageDescription: 5-Pin Plastic (Green) Transistor Single Outline Package, 10 x 9.25 mm Body, 1.7 mm Pitch; Supplier 1: Mouser; Supplier Part Number 1: 726-TLE42764GV50; Supplier 2: Digi-Key; Supplier Part Number 2: TLE42764G V50TR-ND; Supplier 3: Digi-Key; Supplier Part Number 3: TLE42764G V50CT-ND; Supplier 4: Digi-Key; Supplier Part Number 4: TLE42764G V50DKR-ND; Halogen-free: TRUE; Operating Range: 5.5 to 40 V; Packing: Reel; Mounting Technology: Surface Mount; ComponentLink1Description: Manufacturer URL; ComponentLink1URL: http://www.infineon.com/; ComponentLink2Description: Datasheet; ComponentLink2URL: http://www.infineon.com/dgdl/TLE42764-Data-Sheet-V12-Infineon.pdf?folderId=db3a30431ff988150120802bce1d257a&fileId=db3a304335113a63013513f81c0b309c&location=en.Products.Automotive_ICs.Linear_Voltage_Regulators_for_Automotive-Applications.Linear_Voltage_Regulators_-_Selection_Table.DATASHEET.TLE42764-Data-Sheet-V12-Infineon.pdf; ComponentLink3Description: Package Specification; ComponentLink3URL: http://www.infineon.com/dgdl/TLE4675_DS10.pdf?folderId=db3a30431ddc9372011e26863f92474e&fileId=db3a30431ff9881501201fa645654e52&sId=db3a30433d68e984013d8b6677a5267d
footprint INF-PG-TO263-5-1_N (DPAK, 5-Leads, Body 10x9.25mm, Pitch 1.7mm, IPC Medium Density)
footprint INF-PG-TO263-5-1_L (DPAK, 5-Leads, Body 10x9.25mm, Pitch 1.7mm, IPC High Density)
footprint INF-PG-TO263-5-1_M (DPAK, 5-Leads, Body 10x9.25mm, Pitch 1.7mm, IPC Low Density)
pins: 1 I (power) "Input block to ground directly at the IC with a ceramic capacitor", 2 EN (in) "Enable Input high level input signal enables the IC;low level input signal disables the IC;integrated pull-down resistor", 3 GND (power) "Ground internally connected to heat slug", 4 NC "not connected for TLE42764GV50, TLE42764DV50 can be open or connected to GND", 5 Q (power) "Output block to ground with a capacitor close to the IC terminals, respecting the values given for its capacitance and ESR in "Functional Range" on Page 7", 6 GND (power) "Heat Slug internally connected to GND;connect to GND and heatsink area"

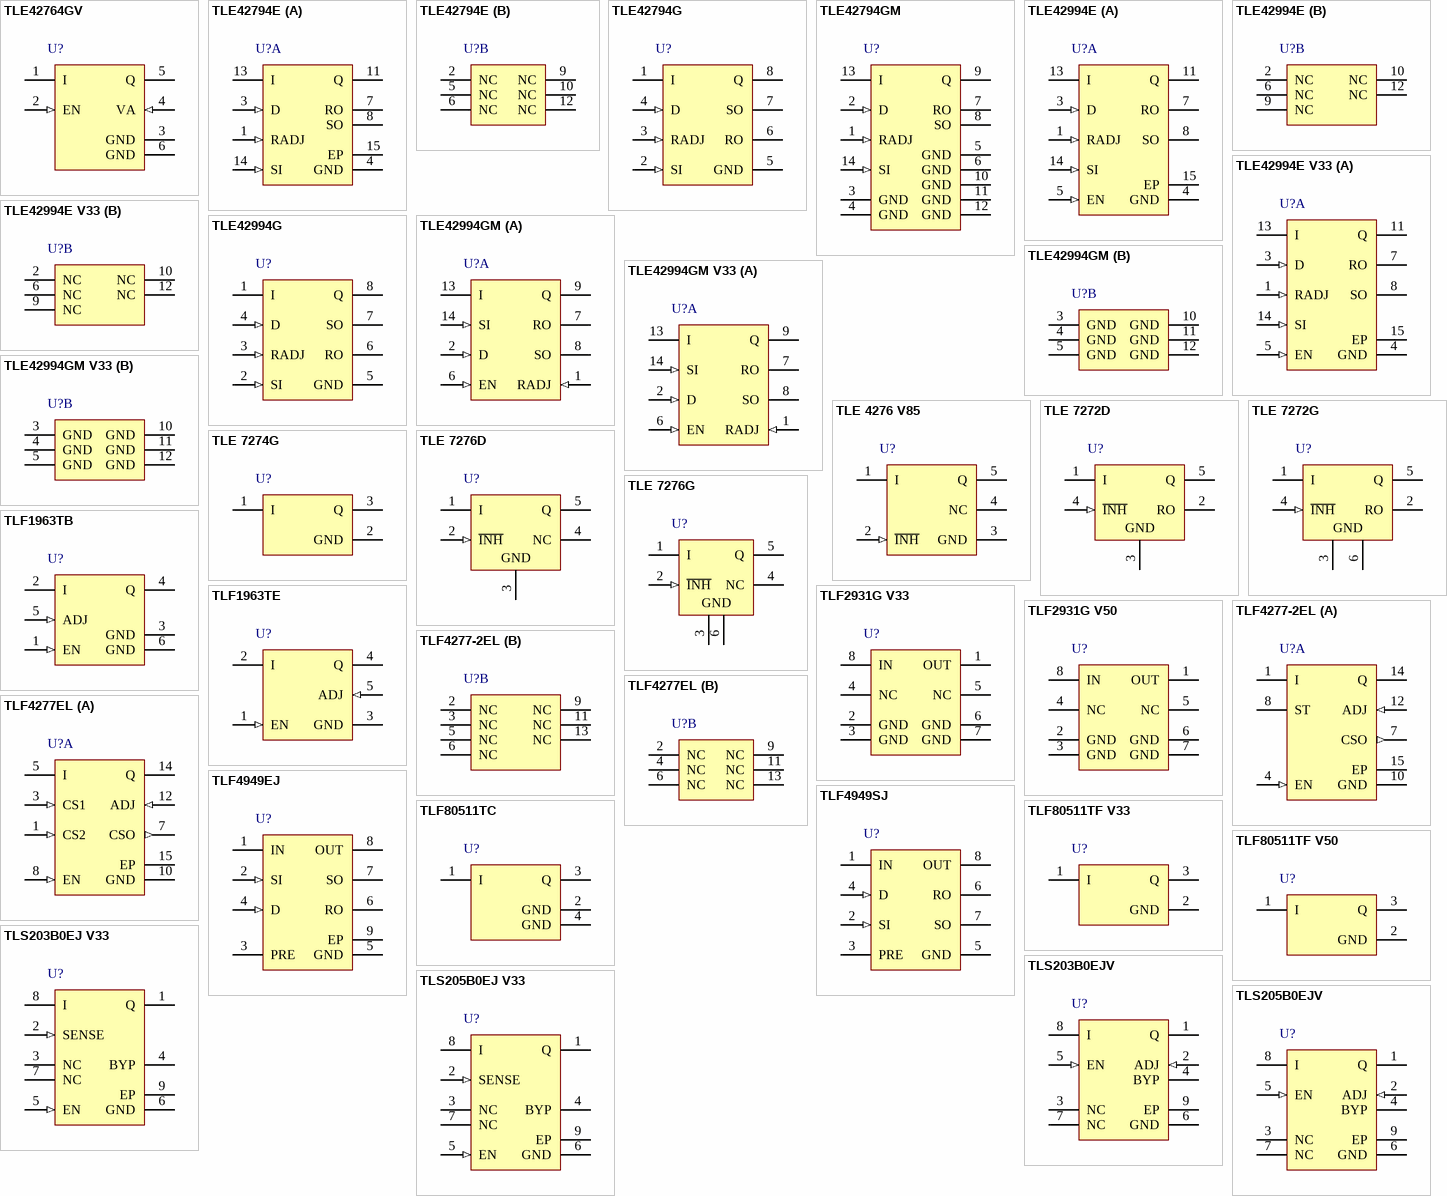
[diagram p9: symbols TLE42764GV to TLS205B0EJV]

## TLE42764GV
designator U?
Low Drop Linear Voltage Regulator, 4.5 to 40 V Supply, adj. Output, -40 to 150 degC, PG-TO263-5-1, Reel, Green; Manufacturer: Infineon; PartNumber: TLE42764GV; Accuracy: 2 %; Dropout Voltage: 250 mV; Green: TRUE; Max. Output Current: 400 mA; Regulator Type: single output; Typical Quiescent Current: 100 uA; DatasheetVersion: Rev. 1.2; PackageVersion: Sep-08; PackageReference: PG-TO263-5-1; PackageDescription: 5-Pin Plastic (Green) Transistor Single Outline Package, 10 x 9.25 mm Body, 1.7 mm Pitch; Supplier 1: Mouser; Supplier Part Number 1: 726-TLE42764GV; Supplier 2: Digi-Key; Supplier Part Number 2: TLE42764GVINTR-ND; Supplier 3: Digi-Key; Supplier Part Number 3: TLE42764GVINCT-ND; Supplier 4: Digi-Key; Supplier Part Number 4: TLE42764GVINDKR-ND; Halogen-free: TRUE; Operating Range: 4.5 to 40 V; Output Voltage: adj.; Packing: Reel; Mounting Technology: Surface Mount; ComponentLink1Description: Manufacturer URL; ComponentLink1URL: http://www.infineon.com/; ComponentLink2Description: Datasheet; ComponentLink2URL: http://www.infineon.com/dgdl/TLE42764-Data-Sheet-V12-Infineon.pdf?folderId=db3a30431ff988150120802bce1d257a&fileId=db3a304335113a63013513f81c0b309c&location=en.Products.Automotive_ICs.Linear_Voltage_Regulators_for_Automotive-Applications.Linear_Voltage_Regulators_-_Selection_Table.DATASHEET.TLE42764-Data-Sheet-V12-Infineon.pdf; ComponentLink3Description: Package Specification; ComponentLink3URL: http://www.infineon.com/dgdl/TLE4675_DS10.pdf?folderId=db3a30431ddc9372011e26863f92474e&fileId=db3a30431ff9881501201fa645654e52&sId=db3a30433d68e984013d8b6677a5267d
footprint INF-PG-TO263-5-1_N (DPAK, 5-Leads, Body 10x9.25mm, Pitch 1.7mm, IPC Medium Density)
footprint INF-PG-TO263-5-1_L (DPAK, 5-Leads, Body 10x9.25mm, Pitch 1.7mm, IPC High Density)
footprint INF-PG-TO263-5-1_M (DPAK, 5-Leads, Body 10x9.25mm, Pitch 1.7mm, IPC Low Density)
pins: 1 I (power) "Input block to ground directly at the IC with a ceramic capacitor", 2 EN (in) "Enable Input high level input signal enables the IC;low level input signal disables the IC;integrated pull-down resistor", 3 GND (power) "Ground internally connected to heat slug", 4 VA (in) "Voltage Adjust Input for TLE42764GV, TLE42764DV connect external voltage divider to configure the output voltage", 5 Q (power) "Output block to ground with a capacitor close to the IC terminals, respecting the values given for its capacitance and ESR in “Functional Range” on Page 7", 6 GND (power) "Heat Slug internally connected to GND;connect to GND and heatsink area"